# Altium schematic symbol library TESTPOINT-CIRCLE.SchLib: 5 symbols
Pins are listed as number, name and electrical type; pins without a type are passive.

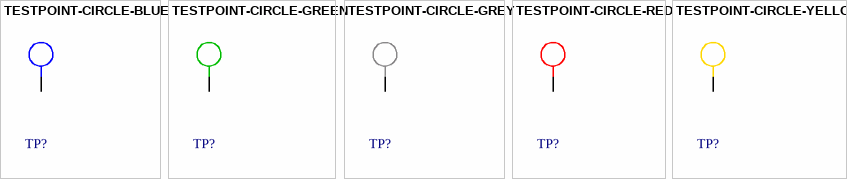
[diagram p0: symbols TESTPOINT-CIRCLE-BLUE to TESTPOINT-CIRCLE-YELLOW]

## TESTPOINT-CIRCLE-BLUE
designator TP?
pins: 1

## TESTPOINT-CIRCLE-GREEN
designator TP?
pins: 1

## TESTPOINT-CIRCLE-GREY
designator TP?
pins: 1

## TESTPOINT-CIRCLE-RED
designator TP?
pins: 1

## TESTPOINT-CIRCLE-YELLOW
designator TP?
pins: 1